# Altium schematic symbol library projectlibrary.SchLib: 22 symbols
Pins are listed as number, name and electrical type; pins without a type are passive.

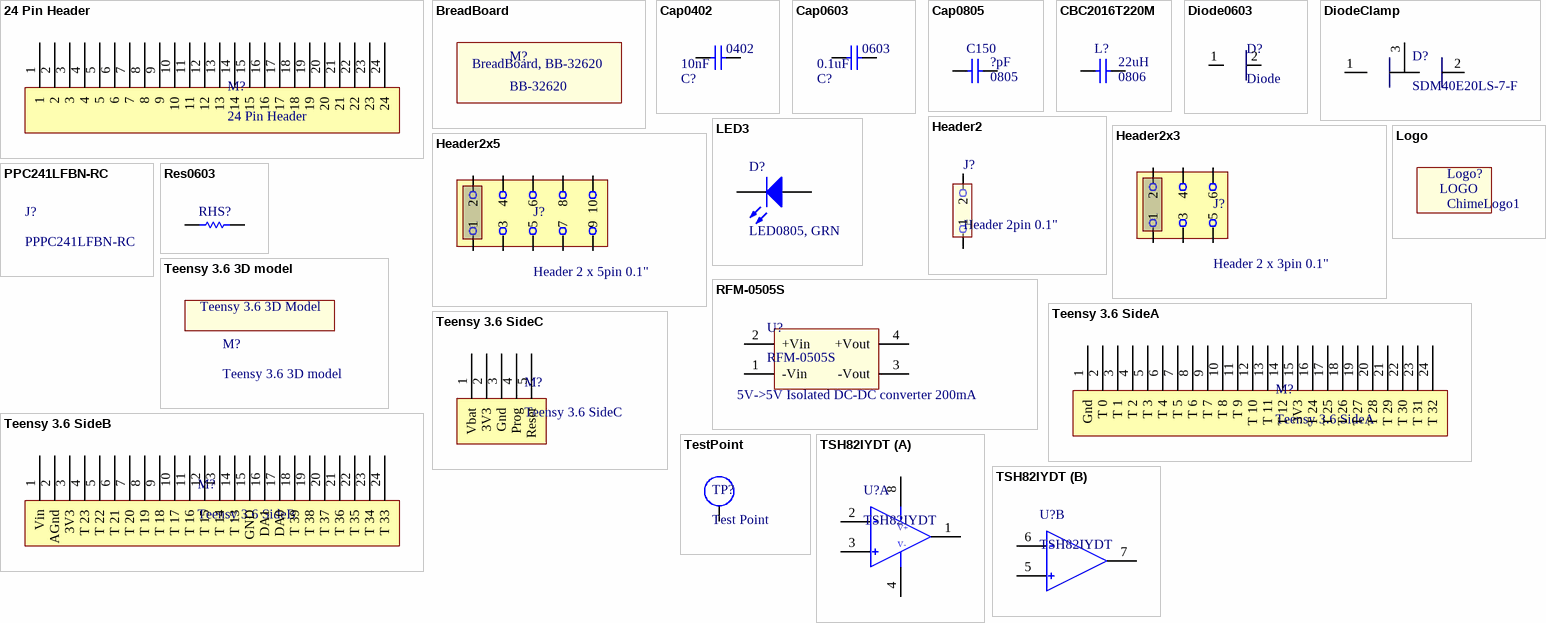
[diagram p0: symbols 24 Pin Header to TSH82IYDT]

## 24 Pin Header
designator M?
Manufacturer: Sullins Connector Solutions; Manufacturers Part Number: PEC24SACN; Loaded: True; Part Constraints: PEC24SACN; Supplier 1: Digi-Key; Supplier Part Number 1: S1032E-24-ND; SupplierUnitCost: $2.28
footprint Header24Male
pins: 1, 2, 3, 4, 5, 6, 7, 8, 9, 10, 11, 12, 13, 14, 15, 16, 17, 18, 19, 20, 21, 22, 23, 24

## BreadBoard
designator M?, comment BB-32620
Breadboard BB-32620
text: BreadBoard, BB-32620

## Cap0402
designator C?, comment 10nF  Footprint: 0402
Capacitor, Ceramic, 0402
simulation model CAP (Capacitor)
signal-integrity model Cap
pins: 1, 2

## Cap0603
designator C?, comment 0.1uF  Footprint: 0603
Capacitor, Ceramic, 0603
simulation model CAP (Capacitor)
signal-integrity model Cap
footprint 0603
footprint 0805
pins: 1, 2

## Cap0805
designator C150, comment ?pF
0805; Footprint: 0805
simulation model CAP (Capacitor)
signal-integrity model Cap
footprint 0805
pins: 1, 2

## CBC2016T220M
designator L?, comment 22uH  Footprint: 0806
0805; Manufacturers Part Number: CBC2016T220M; Supplier 1: Digikey; Supplier Part Number 1: 587-1609-1-ND; SupplierUnitCost: $0.23
footprint 0806
pins: 1, 2

## Diode0603
designator D?, comment Diode
footprint CR1608-0603M
pins: 1, 2

## DiodeClamp
designator D?, comment SDM40E20LS-7-F
footprint SOT23
pins: 1, 2, 3

## Header2
designator J?, comment Header 2pin 0.1"
Header, 0.1", 2-Pin straight (Any equivalent - may need to be value added); Manufacturer: Digikey; Footprint: *
footprint HDR1X2
pins: 1, 2

## Header2x3
designator J?, comment Header 2 x 3pin 0.1"
Header, 0.1", 2 row 3 pins; Manufacturer: Digikey; Footprint: *
footprint Header2x3
pins: 1, 2, 3, 4, 5, 6

## Header2x5
designator J?, comment Header 2 x 5pin 0.1"
Header, 0.1", 2 row 5 pins; Manufacturer: Digikey; Footprint: *
footprint Header2x5
pins: 1, 2, 3, 4, 5, 6, 7, 8, 9, 10
1 alternate drawing of the same symbol

## LED3
designator D?, comment LED0805, GRN
LED 0805 LTST-C170GKT; Manufacturer: Lite-On Inc
footprint 0805L (0805 LED)
pins: 1 K, 2 A

## Logo
designator Logo?, comment ChimeLogo1
footprint McGillLogo1 (McGillLogo)
text: LOGO

## PPC241LFBN-RC
designator J?, comment PPPC241LFBN-RC
Header24Female; Loaded: True; Supplier 1: Digi-Key
footprint Header24Female

## Res0603
designator RHS?
Resistor
simulation model RESISTOR (Resistor)
signal-integrity model Res
footprint 0603
footprint 0805
pins: 1, 2

## RFM-0505S
designator U?
5V->5V DC-DC converter; Manufacturer: Recom Power; Loaded: True; Manufacturers Part Number: RFM-0505S; Supplier 1: Digi-Key; Supplier Part Number 1: 945-3159-ND; SupplierUnitCost: $1.24
footprint RFM-0505S
pins: 1 -Vin, 2 +Vin, 3 -Vout, 4 +Vout
text: 5V->5V Isolated DC-DC converter 200mA

## Teensy 3.6 3D model
designator M?
Loaded: True
footprint Teensy3.6 Model No pins
text: Teensy 3.6 3D Model

## Teensy 3.6 SideA
designator M?
Manufacturer: Sullins Connector Solutions; Manufacturers Part Number: PPPC241LFBN-RC; Loaded: True; Part Constraints: PPPC241LFBN-RC; Supplier 1: Digi-Key; Supplier Part Number 1: S7057-ND; SupplierUnitCost: $1.55
footprint Header24Female
pins: 1 Gnd, 2 T 0, 3 T 1, 4 T 2, 5 T 3, 6 T 4, 7 T 5, 8 T 6, 9 T 7, 10 T 8, 11 T 9, 12 T 10, 13 T 11, 14 T 12, 15 3V3, 16 T 24, 17 T 25, 18 T 26, 19 T 27, 20 T 28, 21 T 29, 22 T 30, 23 T 31, 24 T 32

## Teensy 3.6 SideB
designator M?
Teensy 3.6 SideA; Manufacturer: Sullins Connector Solutions; Manufacturers Part Number: PPPC241LFBN-RC; Loaded: True; Part Constraints: PPPC241LFBN-RC; Supplier 1: Digi-Key; Supplier Part Number 1: S7057-ND; SupplierUnitCost: $1.55
footprint Header24Female
pins: 1 Vin, 2 AGnd, 3 3V3, 4 T 23, 5 T 22, 6 T 21, 7 T 20, 8 T 19, 9 T 18, 10 T 17, 11 T 16, 12 T 15, 13 T 14, 14 T 13, 15 GND, 16 DA1, 17 DA0, 18 T 39, 19 T 38, 20 T 37, 21 T 36, 22 T 35, 23 T 34, 24 T 33

## Teensy 3.6 SideC
designator M?
Manufacturer: Sullins Connector Solutions; Manufacturers Part Number: PPPC051LFBN-RC; Assembly Comments: Might not fit; Loaded: False; Part Constraints: PPPC051LFBN-RC; Supplier 1: Digi-Key; Supplier Part Number 1: S7038-ND; SupplierUnitCost: $0.49
footprint Header5Female
pins: 1 Vbat, 2 3V3, 3 Gnd, 4 Prog, 5 Reset

## TestPoint
designator TP?, comment Test Point
Part Number: 5126  Keystone Electronics
footprint TestPoint (Test Point with Loop - 1.6mm hole)
pins: 0

## TSH82IYDT
designator U?
Dual R-R Opamp Soic 8 65Mhz GBP; Manufacturer: STMicroelectronics; Assembly Comments: none; Loaded: True; Supplier 1: Digi-Key; Supplier Part Number 1: 497-10276-1-ND; Part Constraints: TSH82IYDT; Manufacturers Part Number: TSH82IYDT; SupplierUnitCost: $1.17
footprint SO8
part A pins: 1 Out, 2 IN-, 3 IN+, 4 V- (power), 8 V+ (power)
part B pins: 5 IN+, 6 IN-, 7 Out